# EAGLE library part NTS0102DP,125 (library NTS0102DP_125)
NXP NTS0102DP,125, Voltage Level Shifter, 3-State, 8-Pin TSSOP Source: Datasheet <http://www.nxp.com/docs/en/data-sheet/NTS0102_Q100.pdf>
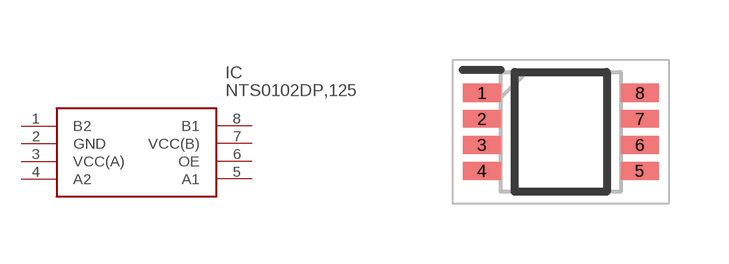
[diagram p0: symbol with the pads of SOP65P400X110-8N; footprint SOP65P400X110-8N]

Designator prefix IC

## NTS0102DP,125 (Description: NXP NTS0102DP,125, Voltage Level Shifter, 3-State, 8-Pin TSSOP; Height: 1.1mm; Manufacturer_Name: NXP; Manufacturer_Part_Number: NTS0102DP,125; Mouser_Part_Number: 771-NTS0102DP125; Mouser_Price-Stock: https://www.mouser.co.uk/ProductDetail/NXP-Semiconductors/NTS0102DP125?qs=vbj%2FKoHZRAiWuPfdc78aWg%3D%3D)  [SOP65P400X110-8N]
1  B2
2  GND
3  VCC(A)
4  A2
5  A1
6  OE
7  VCC(B)
8  B1

## Footprint SOP65P400X110-8N (pad centres in mm)
NTS0102DP,125
smd 0.95 x 0.45: 1 -1.975,0.975; 2 -1.975,0.325; 3 -1.975,-0.325; 4 -1.975,-0.975; 5 1.975,-0.975; 6 1.975,-0.325; 7 1.975,0.325; 8 1.975,0.975